# Altium schematic symbol library SCH - MCU - INFINEON XMC - INFINEON XMC1201T028.SchLib: 1 symbol
Pins are listed as number, name and electrical type; pins without a type are passive.

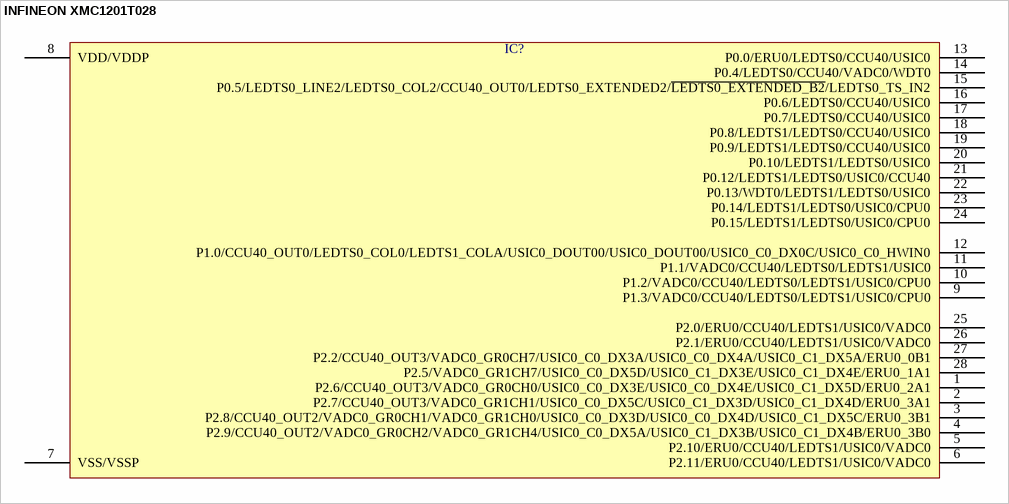
[diagram p0: symbol INFINEON XMC1201T028]

## INFINEON XMC1201T028
designator IC?  (value not drawn)
pins: 1 P2.6/CCU40_OUT3/VADC0_GR0CH0/USIC0_C0_DX3E/USIC0_C0_DX4E/USIC0_C1_DX5D/ERU0_2A1, 2 P2.7/CCU40_OUT3/VADC0_GR1CH1/USIC0_C0_DX5C/USIC0_C1_DX3D/USIC0_C1_DX4D/ERU0_3A1, 3 P2.8/CCU40_OUT2/VADC0_GR0CH1/VADC0_GR1CH0/USIC0_C0_DX3D/USIC0_C0_DX4D/USIC0_C1_DX5C/ERU0_3B1, 4 P2.9/CCU40_OUT2/VADC0_GR0CH2/VADC0_GR1CH4/USIC0_C0_DX5A/USIC0_C1_DX3B/USIC0_C1_DX4B/ERU0_3B0, 5 P2.10/ERU0/CCU40/LEDTS1/USIC0/VADC0, 6 P2.11/ERU0/CCU40/LEDTS1/USIC0/VADC0, 7 VSS/VSSP, 8 VDD/VDDP, 9 P1.3/VADC0/CCU40/LEDTS0/LEDTS1/USIC0/CPU0, 10 P1.2/VADC0/CCU40/LEDTS0/LEDTS1/USIC0/CPU0, 11 P1.1/VADC0/CCU40/LEDTS0/LEDTS1/USIC0, 12 P1.0/CCU40_OUT0/LEDTS0_COL0/LEDTS1_COLA/USIC0_DOUT00/USIC0_DOUT00/USIC0_C0_DX0C/USIC0_C0_HWIN0, 13 P0.0/ERU0/LEDTS0/CCU40/USIC0, 14 P0.4/LEDTS0/CCU40/VADC0/WDT0, 15 P0.5/LEDTS0_LINE2/LEDTS0_COL2/CCU40_OUT0/LEDTS0_EXTENDED2/~{LEDTS0_EXTENDED_B2}/LEDTS0_TS_IN2, 16 P0.6/LEDTS0/CCU40/USIC0, 17 P0.7/LEDTS0/CCU40/USIC0, 18 P0.8/LEDTS1/LEDTS0/CCU40/USIC0, 19 P0.9/LEDTS1/LEDTS0/CCU40/USIC0, 20 P0.10/LEDTS1/LEDTS0/USIC0, 21 P0.12/LEDTS1/LEDTS0/USIC0/CCU40, 22 P0.13/WDT0/LEDTS1/LEDTS0/USIC0, 23 P0.14/LEDTS1/LEDTS0/USIC0/CPU0, 24 P0.15/LEDTS1/LEDTS0/USIC0/CPU0, 25 P2.0/ERU0/CCU40/LEDTS1/USIC0/VADC0, 26 P2.1/ERU0/CCU40/LEDTS1/USIC0/VADC0, 27 P2.2/CCU40_OUT3/VADC0_GR0CH7/USIC0_C0_DX3A/USIC0_C0_DX4A/USIC0_C1_DX5A/ERU0_0B1, 28 P2.5/VADC0_GR1CH7/USIC0_C0_DX5D/USIC0_C1_DX3E/USIC0_C1_DX4E/ERU0_1A1